# EAGLE library part L6920 (library m328p_rfm69_node)
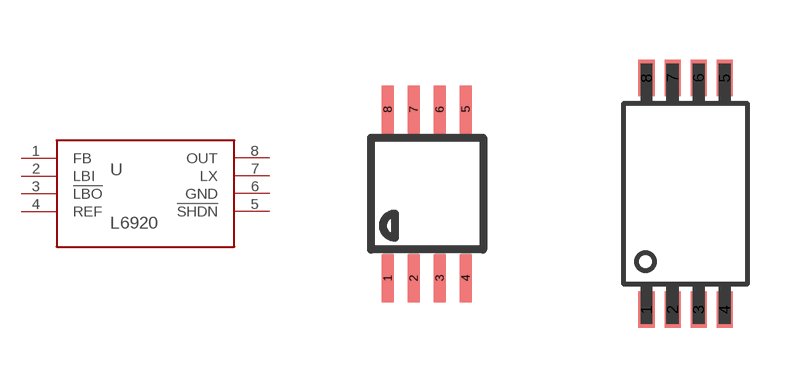
[diagram p2: symbol with the pads of MSOP8; footprints MSOP8, TSSOP8]

Designator prefix -

## L6920MSOP8  [MSOP8]
1  FB
2  LBI
3  !LBO
4  REF
5  !SHDN
6  GND
7  LX
8  OUT

## L6920TSSOP8  [TSSOP8]
Pads as for MSOP8

## Footprint MSOP8 (pad centres in mm)
smd 0.3 x 1.2: 1 -0.976,-2.113; 2 -0.326,-2.113; 3 0.324,-2.113; 4 0.974,-2.113; 5 0.974,2.112; 6 0.324,2.112; 7 -0.326,2.112; 8 -0.976,2.112

## Footprint TSSOP8 (pad centres in mm)
smd 0.4 x 0.9: 1 -0.975,-2.9; 2 -0.325,-2.9; 3 0.325,-2.9; 4 0.975,-2.9; 5 0.975,2.9; 6 0.325,2.9; 7 -0.325,2.9; 8 -0.975,2.9